# Altium schematic symbol library TGIS_Connectors.SchLib: 26 symbols
Pins are listed as number, name and electrical type; pins without a type are passive.

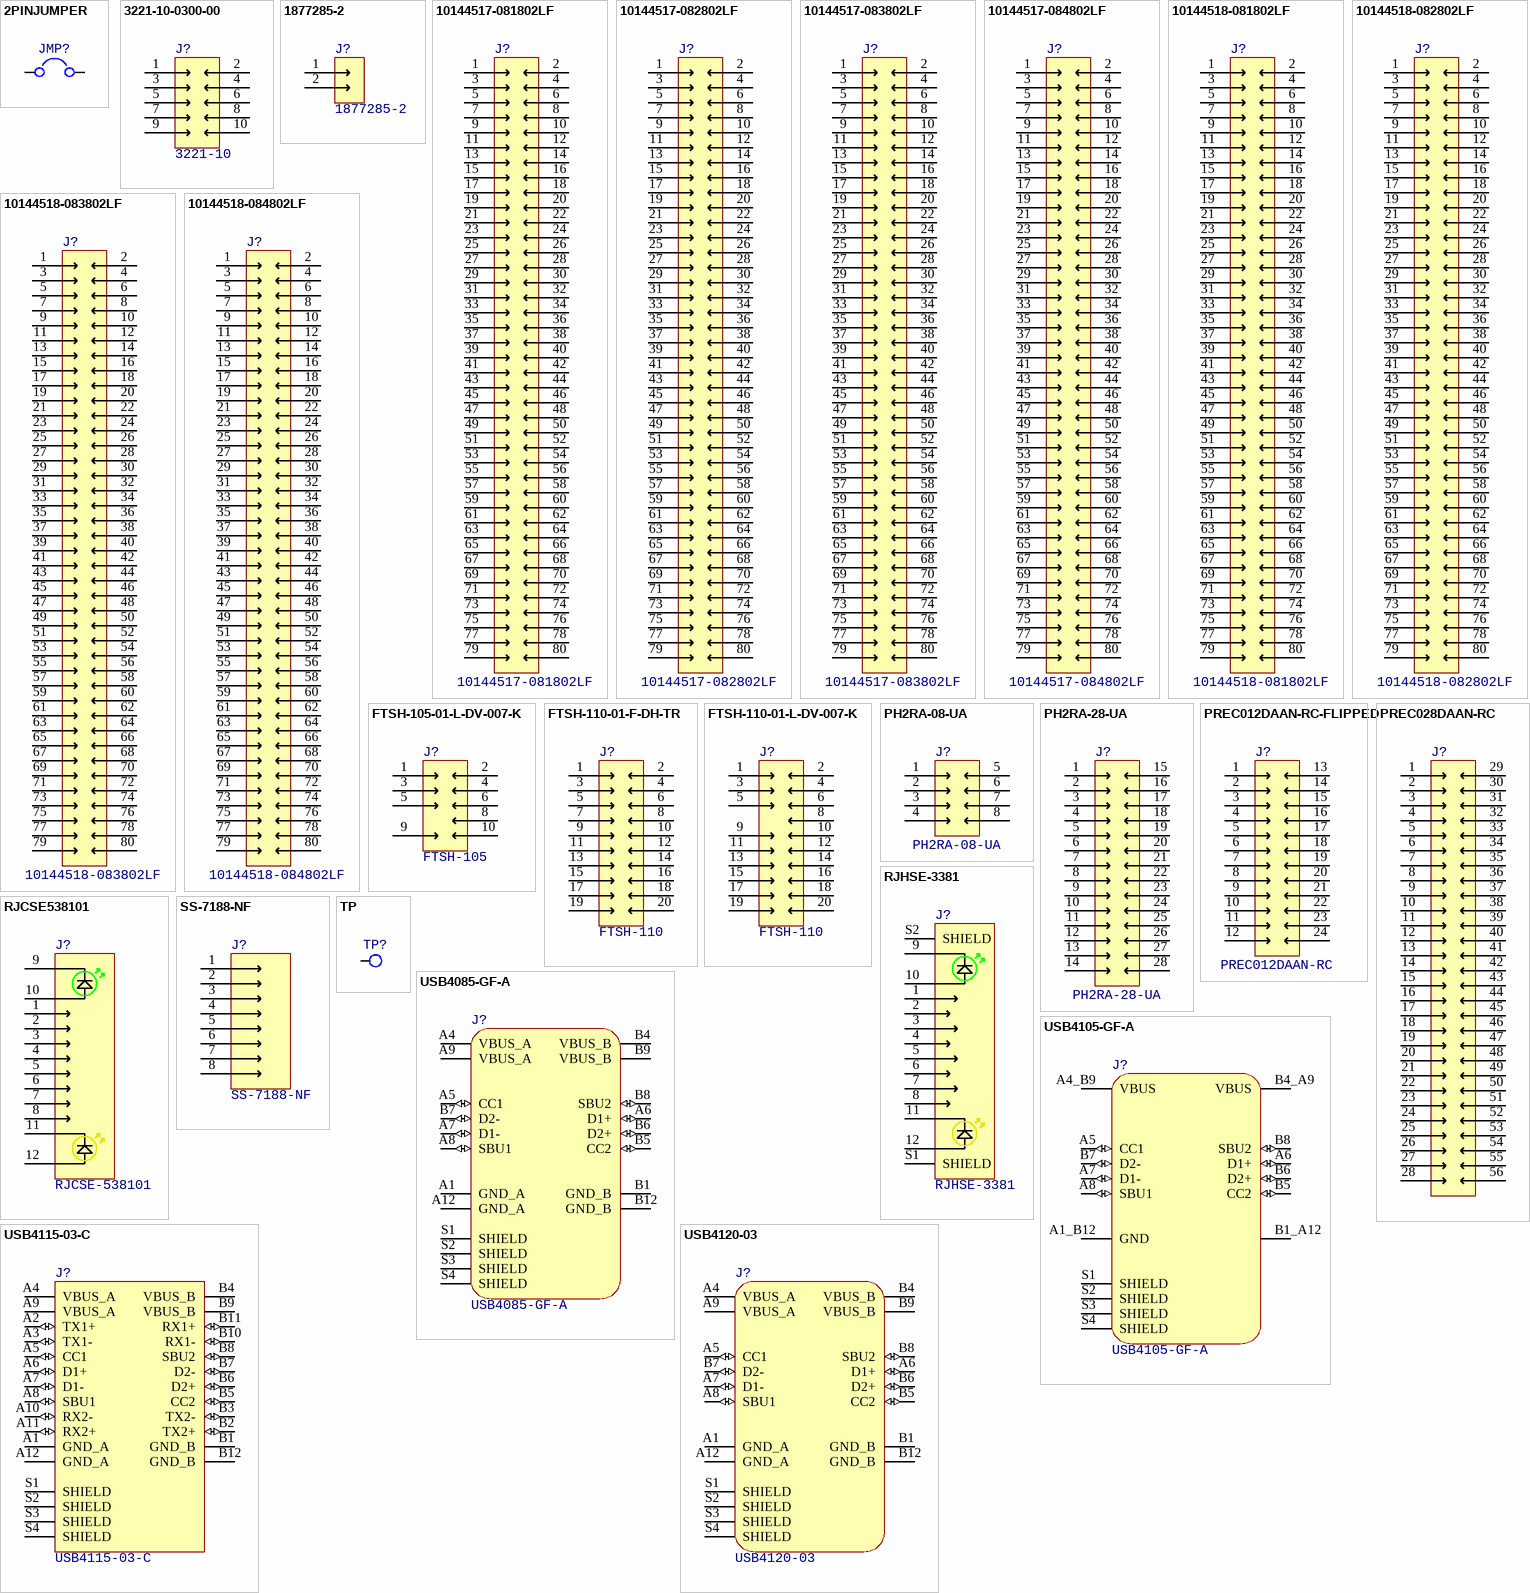
[diagram p0: symbols 2PINJUMPER to USB4120-03]

## 2PINJUMPER
designator JMP?, comment 2 Pin Header  (value not drawn)  (no BOM)
2 Position Jumper
footprint 2PinJumper
pins: 1, 2

## 3221-10-0300-00
designator J?, comment 3221-10
Connector Header Surface Mount 10 position 0.050" (1.27mm); Supplier 1: Digikey; Supplier Part Number 1: 1175-1735-ND
footprint CNC_3221-10-0300-00
footprint 3220-10-0200-00
pins: 1, 2, 3, 4, 5, 6, 7, 8, 9, 10

## 1877285-2
designator J?
Supplier 1: Digi-Key; Supplier Part Number 1: A99845-ND
footprint TE_1877285-2
pins: 1, 2

## 10144517-081802LF
designator J?
CONN RCPT 1 80POS SMD GOLD; Supplier 1: Digikey; Supplier Part Number 1: 609-5437-1-ND
footprint AMPHENOL_10144517-081802LF
pins: 1, 2, 3, 4, 5, 6, 7, 8, 9, 10, 11, 12, 13, 14, 15, 16, 17, 18, 19, 20, 21, 22, 23, 24, 25, 26, 27, 28, 29, 30, 31, 32, 33, 34, 35, 36, 37, 38, 39, 40, 41, 42, 43, 44, 45, 46, 47, 48, 49, 50, 51, 52, 53, 54, 55, 56, 57, 58, 59, 60, 61, 62, 63, 64, 65, 66, 67, 68, 69, 70, 71, 72, 73, 74, 75, 76, 77, 78, 79, 80

## 10144517-082802LF
designator J?
CONN RCPT 2 80POS SMD GOLD
pins: 1, 2, 3, 4, 5, 6, 7, 8, 9, 10, 11, 12, 13, 14, 15, 16, 17, 18, 19, 20, 21, 22, 23, 24, 25, 26, 27, 28, 29, 30, 31, 32, 33, 34, 35, 36, 37, 38, 39, 40, 41, 42, 43, 44, 45, 46, 47, 48, 49, 50, 51, 52, 53, 54, 55, 56, 57, 58, 59, 60, 61, 62, 63, 64, 65, 66, 67, 68, 69, 70, 71, 72, 73, 74, 75, 76, 77, 78, 79, 80

## 10144517-083802LF
designator J?
CONN RCPT 3 80POS SMD GOLD; Supplier 1: Digikey; Supplier Part Number 1: 609-5439-1-ND
pins: 1, 2, 3, 4, 5, 6, 7, 8, 9, 10, 11, 12, 13, 14, 15, 16, 17, 18, 19, 20, 21, 22, 23, 24, 25, 26, 27, 28, 29, 30, 31, 32, 33, 34, 35, 36, 37, 38, 39, 40, 41, 42, 43, 44, 45, 46, 47, 48, 49, 50, 51, 52, 53, 54, 55, 56, 57, 58, 59, 60, 61, 62, 63, 64, 65, 66, 67, 68, 69, 70, 71, 72, 73, 74, 75, 76, 77, 78, 79, 80

## 10144517-084802LF
designator J?
CONN RCPT 4 80POS SMD GOLD; Supplier 1: Digikey; Supplier Part Number 1: 609-5440-2-ND
pins: 1, 2, 3, 4, 5, 6, 7, 8, 9, 10, 11, 12, 13, 14, 15, 16, 17, 18, 19, 20, 21, 22, 23, 24, 25, 26, 27, 28, 29, 30, 31, 32, 33, 34, 35, 36, 37, 38, 39, 40, 41, 42, 43, 44, 45, 46, 47, 48, 49, 50, 51, 52, 53, 54, 55, 56, 57, 58, 59, 60, 61, 62, 63, 64, 65, 66, 67, 68, 69, 70, 71, 72, 73, 74, 75, 76, 77, 78, 79, 80

## 10144518-081802LF
designator J?
CONN PLUG 1 80POS SMD GOLD; Supplier 1: Digikey; Supplier Part Number 1: 609-5453-1-ND
footprint AMPHENOL_10144518-081802LF
pins: 1, 2, 3, 4, 5, 6, 7, 8, 9, 10, 11, 12, 13, 14, 15, 16, 17, 18, 19, 20, 21, 22, 23, 24, 25, 26, 27, 28, 29, 30, 31, 32, 33, 34, 35, 36, 37, 38, 39, 40, 41, 42, 43, 44, 45, 46, 47, 48, 49, 50, 51, 52, 53, 54, 55, 56, 57, 58, 59, 60, 61, 62, 63, 64, 65, 66, 67, 68, 69, 70, 71, 72, 73, 74, 75, 76, 77, 78, 79, 80

## 10144518-082802LF
designator J?
CONN PLUG 2 80POS SMD GOLD; Supplier 1: Digikey; Supplier Part Number 1: 609-5454-1-ND
footprint AMPHENOL_10144518-082802LF
pins: 1, 2, 3, 4, 5, 6, 7, 8, 9, 10, 11, 12, 13, 14, 15, 16, 17, 18, 19, 20, 21, 22, 23, 24, 25, 26, 27, 28, 29, 30, 31, 32, 33, 34, 35, 36, 37, 38, 39, 40, 41, 42, 43, 44, 45, 46, 47, 48, 49, 50, 51, 52, 53, 54, 55, 56, 57, 58, 59, 60, 61, 62, 63, 64, 65, 66, 67, 68, 69, 70, 71, 72, 73, 74, 75, 76, 77, 78, 79, 80

## 10144518-083802LF
designator J?
CONN PLUG 3 80POS SMD GOLD; Supplier 1: Digikey; Supplier Part Number 1: 609-5455-1-ND
footprint AMPHENOL_10144518-083802LF
pins: 1, 2, 3, 4, 5, 6, 7, 8, 9, 10, 11, 12, 13, 14, 15, 16, 17, 18, 19, 20, 21, 22, 23, 24, 25, 26, 27, 28, 29, 30, 31, 32, 33, 34, 35, 36, 37, 38, 39, 40, 41, 42, 43, 44, 45, 46, 47, 48, 49, 50, 51, 52, 53, 54, 55, 56, 57, 58, 59, 60, 61, 62, 63, 64, 65, 66, 67, 68, 69, 70, 71, 72, 73, 74, 75, 76, 77, 78, 79, 80

## 10144518-084802LF
designator J?
CONN PLUG 4 80POS SMD GOLD; Supplier 1: Digikey; Supplier Part Number 1: 609-5456-1-ND
pins: 1, 2, 3, 4, 5, 6, 7, 8, 9, 10, 11, 12, 13, 14, 15, 16, 17, 18, 19, 20, 21, 22, 23, 24, 25, 26, 27, 28, 29, 30, 31, 32, 33, 34, 35, 36, 37, 38, 39, 40, 41, 42, 43, 44, 45, 46, 47, 48, 49, 50, 51, 52, 53, 54, 55, 56, 57, 58, 59, 60, 61, 62, 63, 64, 65, 66, 67, 68, 69, 70, 71, 72, 73, 74, 75, 76, 77, 78, 79, 80

## FTSH-105-01-L-DV-007-K
designator J?, comment FTSH-105
Connector Header Surface Mount 20 position 0.050" (1.27mm); Supplier 1: Digi-Key; Supplier Part Number 1: SAM9456-ND
footprint SAMTEC_FTSH-105-01-L-DV-007
pins: 1, 2, 3, 4, 5, 6, 8, 9, 10

## FTSH-110-01-F-DH-TR
designator J?, comment FTSH-110
Connector Header Surface Mount 20 position 0.050" (1.27mm); Supplier 1: Digi-Key; Supplier Part Number 1: SAM9456-ND
footprint SAMTEC_FTSH-110-01-F-DH-TR
pins: 1, 2, 3, 4, 5, 6, 7, 8, 9, 10, 11, 12, 13, 14, 15, 16, 17, 18, 19, 20

## FTSH-110-01-L-DV-007-K
designator J?, comment FTSH-110
Connector Header Surface Mount 20 position 0.050" (1.27mm); Supplier 1: Digi-Key; Supplier Part Number 1: SAM9456-ND
footprint SAMTEC_FTSH-110-01-L-DV-007
pins: 1, 2, 3, 4, 5, 6, 8, 9, 10, 11, 12, 13, 14, 15, 16, 17, 18, 19, 20

## PH2RA-08-UA
designator J?
Connector Header Through Hole, Right Angle 8 position 0.100" (2.54mm); Supplier 1: Digikey; Supplier Part Number 1: 2057-PH2RA-08-UA-ND
footprint PH2RA-08-UA (Connector Header Through Hole, Right Angle 8 position 0.100" (2.54mm))
pins: 1, 2, 3, 4, 5, 6, 7, 8

## PH2RA-28-UA
designator J?
Connector Header Through Hole, Right Angle 28 position 0.100" (2.54mm); Supplier 1: Digikey; Supplier Part Number 1: 2057-PH2RA-28-UA-ND
footprint PH2RA-28-UA (Connector Header Through Hole, Right Angle 28 position 0.100" (2.54mm))
pins: 1, 2, 3, 4, 5, 6, 7, 8, 9, 10, 11, 12, 13, 14, 15, 16, 17, 18, 19, 20, 21, 22, 23, 24, 25, 26, 27, 28

## PREC012DAAN-RC-FLIPPED
designator J?, comment PREC012DAAN-RC
Connector Header Through Hole 24 position 0.100" (2.54mm); Supplier 1: Digikey; Supplier Part Number 1: S2012EC-12-ND
footprint PREC012DAAN-RC (Connector Header Through Hole 24 position 0.100" (2.54mm))
pins: 1, 2, 3, 4, 5, 6, 7, 8, 9, 10, 11, 12, 13, 14, 15, 16, 17, 18, 19, 20, 21, 22, 23, 24

## PREC028DAAN-RC
designator J?  (value not drawn)
Connector Header Through Hole 56 position 0.100" (2.54mm); Supplier 1: Digikey; Supplier Part Number 1: S2012EC-28-ND
footprint PREC028DAAN-RC (Connector Header Through Hole 56 position 0.100" (2.54mm))
pins: 1, 2, 3, 4, 5, 6, 7, 8, 9, 10, 11, 12, 13, 14, 15, 16, 17, 18, 19, 20, 21, 22, 23, 24, 25, 26, 27, 28, 29, 30, 31, 32, 33, 34, 35, 36, 37, 38, 39, 40, 41, 42, 43, 44, 45, 46, 47, 48, 49, 50, 51, 52, 53, 54, 55, 56

## RJCSE538101
designator J?, comment RJCSE-538101
Jack Modular Connector 8p8c (RJ45, Ethernet) Vertical Shielded, EMI Finger; Supplier 1: Digi-Key; Supplier Part Number 1: 664-RJCSE538101CT-ND
footprint AMPHENOL_RJCSE538101
pins: 1, 2, 3, 4, 5, 6, 7, 8, 9, 10, 11, 12

## RJHSE-3381
designator J?
Jack Modular Connector 8p8c (RJ45, Ethernet) Vertical Shielded; Supplier 1: Digi-Key; Supplier Part Number 1: RJHSE-3381-ND
footprint AMPHENOL_RJHSE3381
pins: 1, 2, 3, 4, 5, 6, 7, 8, 9 G-, 10 G+, 11 Y-, 12 Y+, S1 SHIELD, S2 SHIELD

## SS-7188-NF
designator J?
Jack Modular Connector 8p8c (RJ45, Ethernet) 90° Angle (Right) Unshielded Cat5e; Supplier 1: Digi-Key; Supplier Part Number 1: 664-RJCSE538101CT-ND
footprint SS-7188-NF
pins: 1, 2, 3, 4, 5, 6, 7, 8

## TP
designator TP?  (no BOM)
footprint TPAD-60MIL
footprint TPTH-100mil (Test Point)
pins: 1

## USB4085-GF-A
designator J?
USB-C (USB TYPE-C) USB 2.0 Receptacle Connector 24 (16+8 Dummy) Position Through Hole, Right Angle; MP: USB4120-03-C_REVA; Package: None; Value: *; Availability: Unavailable; Price: None; Supplier 1: Newark; Supplier Part Number 1: 24AJ2490
footprint GCT_USB4085-GF-A_REVB
pins: A1 GND_A (power), A4 VBUS_A (power), A5 CC1 (io), A6 D1+ (io), A7 D1- (io), A8 SBU1 (io), A9 VBUS_A (power), A12 GND_A (power), B1 GND_B (power), B4 VBUS_B (power), B5 CC2 (io), B6 D2+ (io), B7 D2- (io), B8 SBU2 (io), B9 VBUS_B (power), B12 GND_B (power), S1 SHIELD, S2 SHIELD, S3 SHIELD, S4 SHIELD

## USB4105-GF-A
designator J?
USB-C (USB TYPE-C) USB 2.0 Receptacle Connector 24 (16+8 Dummy) Position Surface Mount, Right Angle; Through Hole; MP: USB4120-03-C_REVA; Package: None; Value: *; Availability: Unavailable; Price: None; Supplier 1: Newark; Supplier Part Number 1: 71AJ9393
footprint GCT_USB4105-GF-A
pins: A1_B12 GND (power), A4_B9 VBUS (power), A5 CC1 (io), A6 D1+ (io), A7 D1- (io), A8 SBU1 (io), B1_A12 ~{} (power), B4_A9 VBUS (power), B5 CC2 (io), B6 D2+ (io), B7 D2- (io), B8 SBU2 (io), S1 SHIELD, S2 SHIELD, S3 SHIELD, S4 SHIELD

## USB4115-03-C
designator J?
USB-C (USB TYPE-C) USB 3.2 Gen 2 (USB 3.1 Gen 2, Superspeed + (USB 3.1)) Receptacle Connector 24 Position Surface Mount, Through Hole; Supplier 1: Future Electronics; Supplier Part Number 1: 4134645
footprint GCT_USB4115-03-C_REVB2
pins: A1 GND_A (power), A2 TX1+ (io), A3 TX1- (io), A4 VBUS_A (power), A5 CC1 (io), A6 D1+ (io), A7 D1- (io), A8 SBU1 (io), A9 VBUS_A (power), A10 RX2- (io), A11 RX2+ (io), A12 GND_A (power), B1 GND_B (power), B2 TX2+ (io), B3 TX2- (io), B4 VBUS_B (power), B5 CC2 (io), B6 D2+ (io), B7 D2- (io), B8 SBU2 (io), B9 VBUS_B (power), B10 RX1- (io), B11 RX1+ (io), B12 GND_B (power), S1 SHIELD, S2 SHIELD, S3 SHIELD, S4 SHIELD

## USB4120-03
designator J?
USB-C (USB TYPE-C) USB 2.0 Receptacle Connector 24 (16+8 Dummy) Position Surface Mount, Through Hole; MP: USB4120-03-C_REVA; Package: None; Value: *; Availability: Unavailable; Price: None; Supplier 1: Newark; Supplier Part Number 1: 24AJ2490
footprint GCT_USB4120-03-C_REVA
pins: A1 GND_A (power), A4 VBUS_A (power), A5 CC1 (io), A6 D1+ (io), A7 D1- (io), A8 SBU1 (io), A9 VBUS_A (power), A12 GND_A (power), B1 GND_B (power), B4 VBUS_B (power), B5 CC2 (io), B6 D2+ (io), B7 D2- (io), B8 SBU2 (io), B9 VBUS_B (power), B12 GND_B (power), S1 SHIELD, S2 SHIELD, S3 SHIELD, S4 SHIELD